# Altium schematic symbol library FET_N_ENHANCEMENT.SchLib: 1 symbol
Pins are listed as number, name and electrical type; pins without a type are passive.

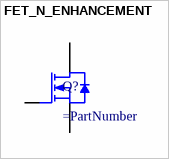
[diagram p0: symbol FET_N_ENHANCEMENT]

## FET_N_ENHANCEMENT
designator Q?
pins: 1 G, 2 S, 3 D